# Altium schematic symbol library Battery.SchLib: 6 symbols
Pins are listed as number, name and electrical type; pins without a type are passive.

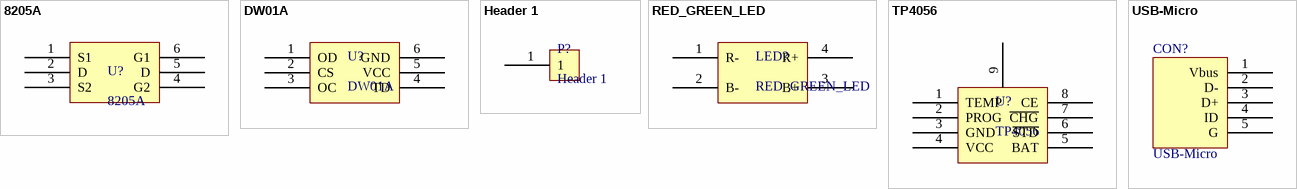
[diagram p0: symbols 8205A to USB-Micro]

## 8205A
designator U?
footprint SOT95P330-6M
pins: 1 S1, 2 D, 3 S2, 4 G2, 5 D, 6 G1

## DW01A
designator U?
footprint SOT95P330-6M
pins: 1 OD, 2 CS, 3 OC, 4 TD, 5 VCC, 6 GND

## Header 1
designator P?
footprint HEADER_1
pins: 1

## RED_GREEN_LED
designator LED?
footprint RED_GREEN_LED1206
pins: 1 R-, 2 B-, 3 B+, 4 R+

## TP4056
designator U?
footprint SOP127P780-8M (SOP, 8-Leads, Body 5.3x5.3mm, Pitch 1.27mm, IPC Low Density)
pins: 1 TEMP, 2 PROG, 3 GND, 4 VCC, 5 BAT, 6 ~{STD}, 7 ~{CHG}, 8 CE, 9

## USB-Micro
designator CON?
footprint USB-micro_B (micro型USB ，5.7*7.8*2.5mm)
pins: 1 Vbus, 2 D-, 3 D+, 4 ID, 5 G